# Altium schematic symbol library Schlib1.SchLib: 22 symbols
Pins are listed as number, name and electrical type; pins without a type are passive.

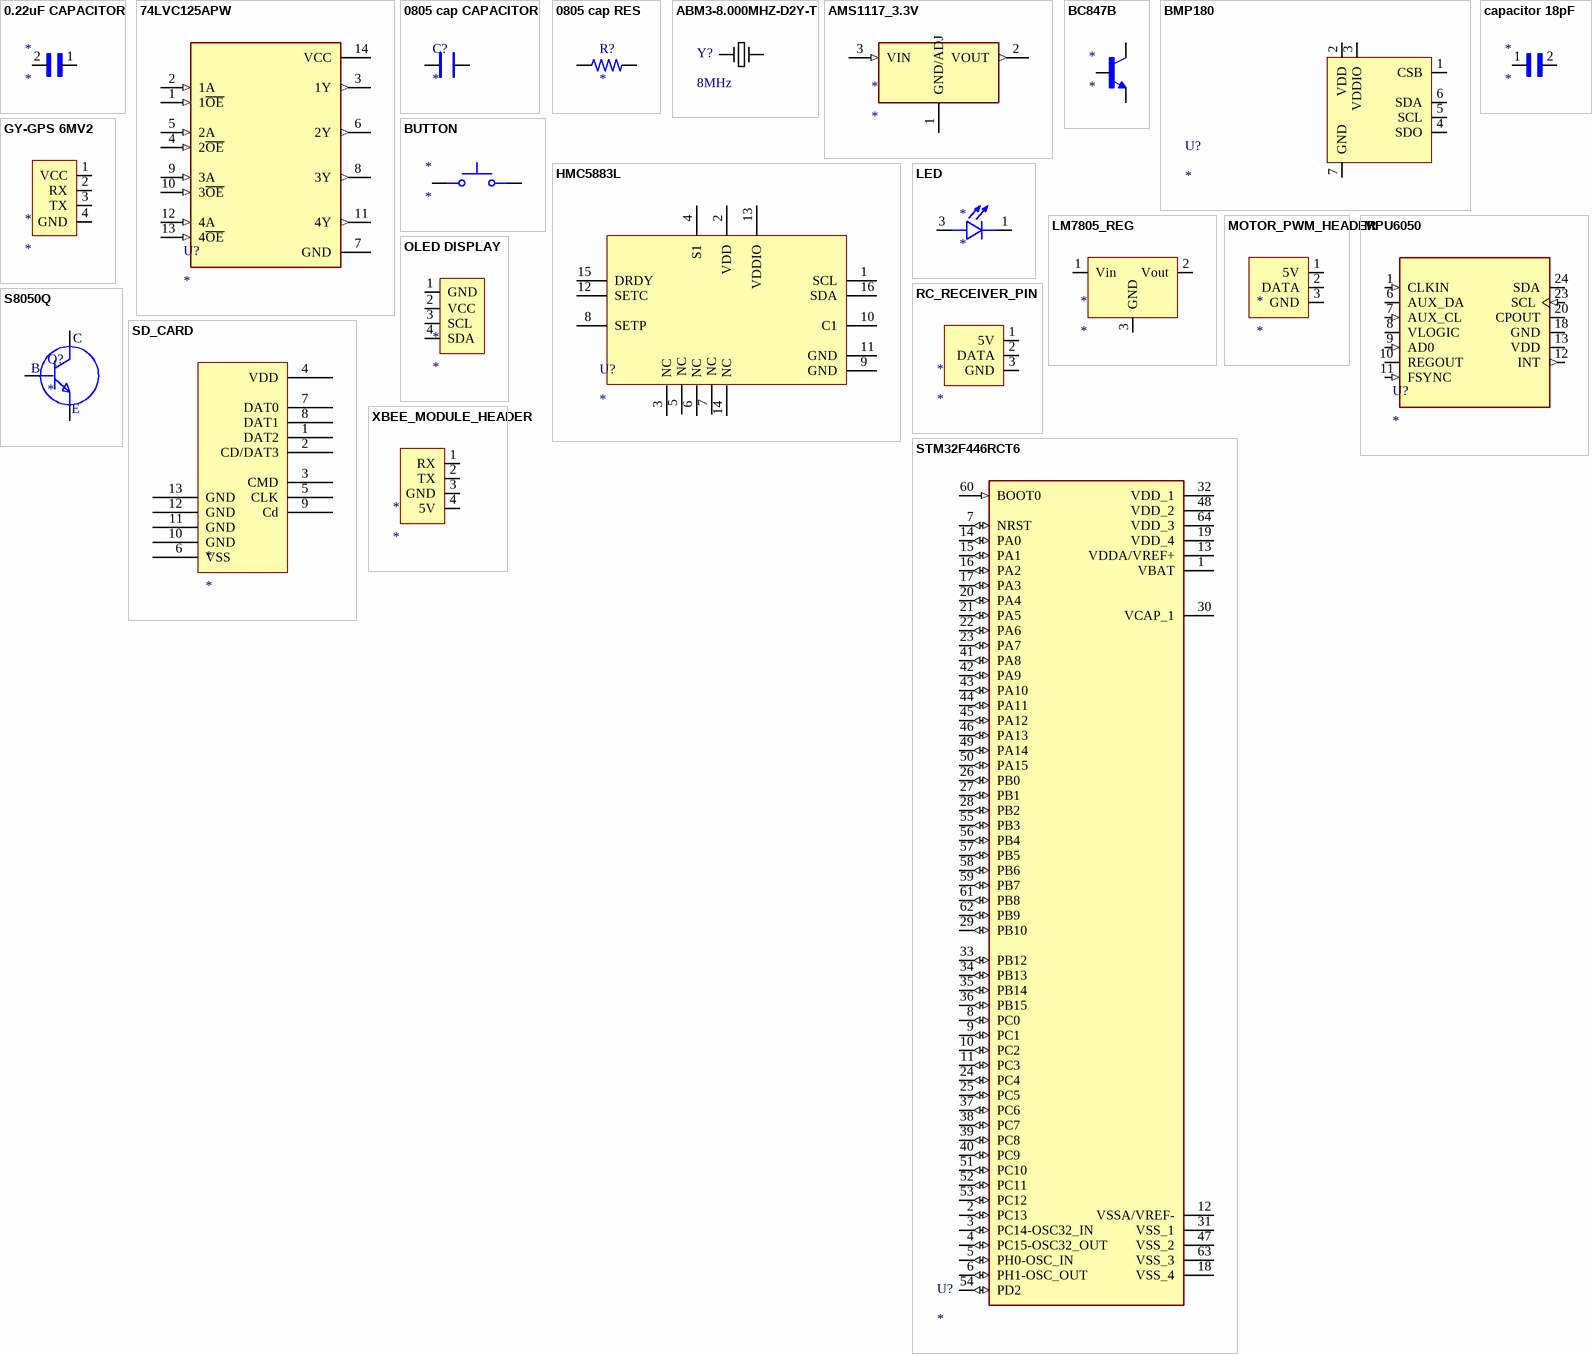
[diagram p0: symbols 0.22uF CAPACITOR to XBEE_MODULE_HEADER]

## 0.22uF CAPACITOR
designator *
footprint 0.22uF CAPACITOR
pins: 1, 2

## 74LVC125APW
designator U?
footprint 74LVC125APW
pins: 1 1~{OE} (in), 2 1A (in), 3 1Y (out), 4 2~{OE} (in), 5 2A (in), 6 2Y (out), 7 GND (power), 8 3Y (out), 9 3A (in), 10 3~{OE} (in), 11 4Y (out), 12 4A (in), 13 4~{OE} (in), 14 VCC (power)

## 0805 cap CAPACITOR
designator C?
footprint 0805 cup CAPACITOR
pins: 1, 2

## 0805 cap RES
designator R?
RES 0.33 OHM 1% 1/4W 0805
footprint 0805 cap RES
pins: 1, 2

## ABM3-8.000MHZ-D2Y-T
designator Y?, comment 8MHz
footprint ABM3-8.000MHZ-D2Y-T (8MHz CRYSTAL)
pins: 1, 2

## AMS1117_3.3V
designator *
footprint AMS1117_3.3V
pins: 1 GND/ADJ (power), 2 VOUT (out), 3 VIN (in)

## BC847B
designator *
footprint BC847B
pins: 1 B, 2 E, 3 C

## BMP180
designator U?
PRESSURE SENSOR
footprint BMP180
pins: 1 CSB, 2 VDD, 3 VDDIO, 4 SDO, 5 SCL, 6 SDA, 7 GND

## BUTTON
designator *
footprint BUTTON
pins: 1, 3

## capacitor 18pF
designator *
footprint 18pF capacitor
pins: 1, 2

## GY-GPS 6MV2
designator *
footprint GY-GPS 6MV2
pins: 1 VCC, 2 RX, 3 TX, 4 GND

## HMC5883L
designator U?
footprint HMC5883L
pins: 1 SCL, 2 VDD, 3 NC, 4 S1, 5 NC, 6 NC, 7 NC, 8 SETP, 9 GND, 10 C1, 11 GND, 12 SETC, 13 VDDIO, 14 NC, 15 DRDY, 16 SDA

## LED
designator *
footprint led
pins: 1 C, 3 A

## LM7805_REG
designator *
footprint DPAK228P968X230-3N (D-PAK, 3-Pads, Body 6,40x6,56mm (max), IPC Medium Density)
pins: 1 Vin, 2 Vout, 3 GND

## MOTOR_PWM_HEADER
designator *
footprint MOTOR_PWM_HEADER
pins: 1 5V, 2 DATA, 3 GND

## MPU6050
designator U?
footprint MPU6050
pins: 1 CLKIN (in), 6 AUX_DA (io), 7 AUX_CL (in), 8 VLOGIC (power), 9 AD0 (in), 10 REGOUT, 11 FSYNC (in), 12 INT (out), 13 VDD (power), 18 GND (power), 20 CPOUT, 23 SCL (in), 24 SDA (io)

## OLED DISPLAY
designator *
footprint OLED DISPLAY
pins: 1 GND, 2 VCC, 3 SCL, 4 SDA

## RC_RECEIVER_PIN
designator *
footprint RC_RECEIVER_PIN
pins: 1 5V, 2 DATA, 3 GND

## S8050Q
designator Q?
BJT TRANSİSTOR 25V 0.5mA
footprint S8050Q (BJT TRANSISTOR)
pins: 1 B, 2 E, 3 C

## SD_CARD
designator *
footprint SD_CARD
pins: 1 DAT2, 2 CD/DAT3, 3 CMD, 4 VDD, 5 CLK, 6 VSS, 7 DAT0, 8 DAT1, 9 Cd, 10 GND, 11 GND, 12 GND, 13 GND

## STM32F446RCT6
designator U?
footprint STM32F446RCT6
pins: 1 VBAT (power), 2 PC13 (io), 3 PC14-OSC32_IN (io), 4 PC15-OSC32_OUT (io), 5 PH0-OSC_IN (io), 6 PH1-OSC_OUT (io), 7 NRST (io), 8 PC0 (io), 9 PC1 (io), 10 PC2 (io), 11 PC3 (io), 12 VSSA/VREF- (power), 13 VDDA/VREF+ (power), 14 PA0 (io), 15 PA1 (io), 16 PA2 (io), 17 PA3 (io), 18 VSS_4 (power), 19 VDD_4 (power), 20 PA4 (io), 21 PA5 (io), 22 PA6 (io), 23 PA7 (io), 24 PC4 (io), 25 PC5 (io), 26 PB0 (io), 27 PB1 (io), 28 PB2 (io), 29 PB10 (io), 30 VCAP_1 (power), 31 VSS_1 (power), 32 VDD_1 (power), 33 PB12 (io), 34 PB13 (io), 35 PB14 (io), 36 PB15 (io), 37 PC6 (io), 38 PC7 (io), 39 PC8 (io), 40 PC9 (io), 41 PA8 (io), 42 PA9 (io), 43 PA10 (io), 44 PA11 (io), 45 PA12 (io), 46 PA13 (io), 47 VSS_2 (power), 48 VDD_2 (power), 49 PA14 (io), 50 PA15 (io), 51 PC10 (io), 52 PC11 (io), 53 PC12 (io), 54 PD2 (io), 55 PB3 (io), 56 PB4 (io), 57 PB5 (io), 58 PB6 (io), 59 PB7 (io), 60 BOOT0 (in), 61 PB8 (io), 62 PB9 (io), 63 VSS_3 (power), 64 VDD_3 (power)

## XBEE_MODULE_HEADER
designator *
footprint XBEE_MODULE_HEADER
pins: 1 RX, 2 TX, 3 GND, 4 5V